# Altium footprint library MJTP1117.PcbLib: 1 footprints
Each footprint in its own frame and in the unit in brackets; x right, y up, seen from the top. Pads: shape width x height; smd on the part's side, far side on the other; paste and mask are expansions set on the pad; w line width, h text height; cw(c..) or ccw(c..) is an arc to the next point about the centre after c.
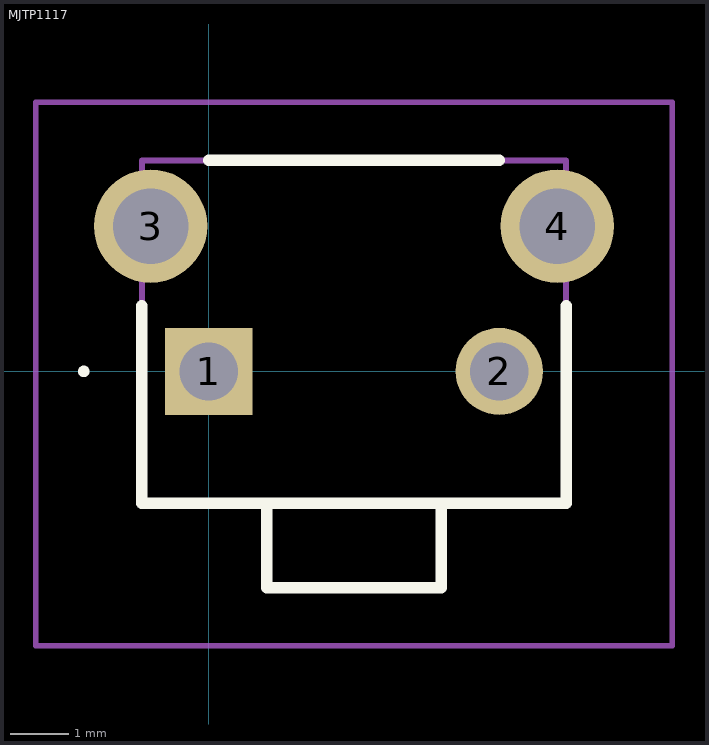
[diagram p0: the footprint, top view; thin cyan lines are the x and y axes]

## MJTP1117 [mm]
pads (4):
  rect 1.5x1.5 hole 1: 1(0,0)
  round 1.5 hole 1: 2(5,0)
  round 1.95 hole 1.3: 3(-1,2.5) 4(6,2.5)
Top Overlay:
  lines w0.1: -2.2,0 -2.2,0 ; -2.2,0 ccw(c-2.15,0) -2.1,0 ; -2.2,0 cw(c-2.15,0) -2.1,0 ; -2.1,0 -2.1,0
  lines w0.2: -1.15,1.13 -1.15,-2.27 6.15,-2.27 6.15,1.13 ; 0,3.63 5,3.63 ; 1,-2.27 1,-3.72 4,-3.72 4,-2.27
Mechanical 15:
  lines w0.1: 1,-2.27 1,-3.72 4,-3.72 4,-2.27 ; -1.15,-2.27 6.15,-2.27 6.15,3.63 -1.15,3.63 -1.15,-2.27
Mechanical 20:
  lines w0.1: -2.975,-4.72 7.975,-4.72 7.975,4.63 -2.975,4.63 -2.975,-4.72